# EAGLE library part 112A-TAAR-R03_ATTEND (library Hector_Watch)
Micro SD Card Socket, Push-Push Type, Top Mount, SMT, H=1.83mm, 10u Source: Datasheet <https://www.attend.com.tw/data/download/file/112A-TAAR-R03.pdf>
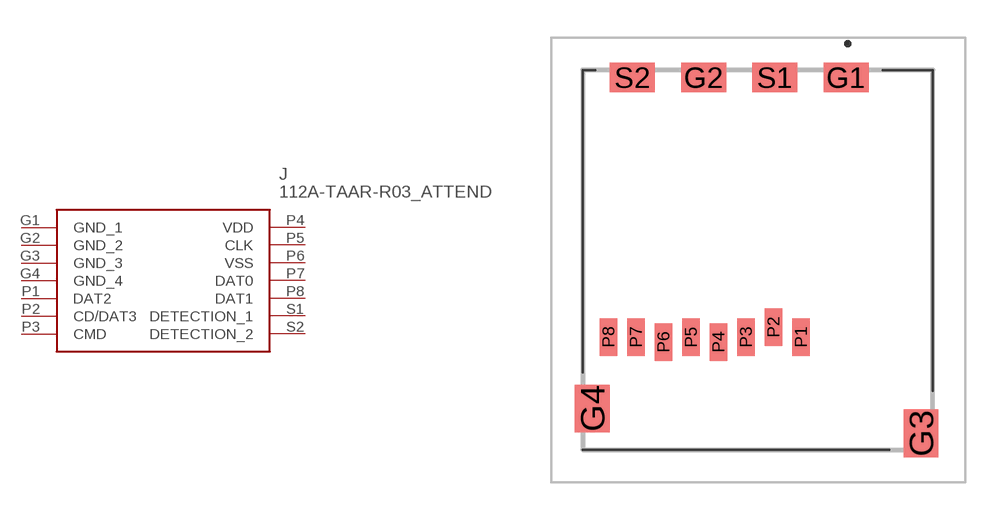
[diagram p0: symbol with the pads of 112ATAARR03ATTEND; footprint 112ATAARR03ATTEND]

Designator prefix J

## 112A-TAAR-R03_ATTEND (DESCRIPTION: Micro SD Card Socket, Push-Push Type, Top Mount, SMT, H=1.83mm, 10u; HEIGHT: 1.9mm; MANUFACTURER_NAME: ATTEND; MANUFACTURER_PART_NUMBER: 112A-TAAR-R03 ATTEND)  [112ATAARR03ATTEND]
G1  GND_1
G2  GND_2
G3  GND_3
G4  GND_4
P1  DAT2
P2  CD/DAT3
P3  CMD
P4  VDD
P5  CLK
P6  VSS
P7  DAT0
P8  DAT1
S1  DETECTION_1
S2  DETECTION_2

## Footprint 112ATAARR03ATTEND (pad centres in mm)
112A-TAAR-R03 ATTEND-1
smd 1.8 x 1.2: G1 10.6,10.4; G2 4.9,10.4; S1 7.75,10.4; S2 2.05,10.4
smd 1.4 x 1.9: G3 13.6,-3.85; G4 0.45,-2.85
smd 0.7 x 1.5: P1 8.8,0; P2 7.7,0.4; P3 6.6,0; P4 5.5,-0.2; P5 4.4,0; P6 3.3,-0.2; P7 2.2,0; P8 1.1,0